# Altium schematic symbol library VBlib_Other.SchLib: 4 symbols
Pins are listed as number, name and electrical type; pins without a type are passive.

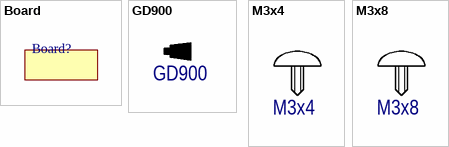
[diagram p0: symbols Board to М3x8]

## Board
designator Board?  (value not drawn)

## GD900
designator TP?
Thermal Paste; Part Number: Материал Термопаста КПТ-19; Adm_Check_1: 30.03.2019 Параметры ОК (Якубенко А.А.); Component_Type: Термопаста; TDD_Ispolnenie: Постоянные данные; TDD_Naimenovanie: Термопаста КПТ-19; TDD_Razdel_specifikacii: Материалы; Value: Термопаста КПТ-19; Pin Count: 0; Vedomost_pokupnyh: Термопаста КПТ-19
1 alternate drawing of the same symbol

## М3x4
designator SI?
Cross Recessed Pan Head Screw
footprint Screw_M3x6_Phillips
1 alternate drawing of the same symbol

## М3x8
designator SI?
Cross Recessed Pan Head Screw With Collar (DIN 967)
footprint Screw_ISO_7380_M3x6
1 alternate drawing of the same symbol